# Altium footprint library port.PcbLib: 36 footprints (part 3 of 3)
Each footprint in its own frame and in the unit in brackets; x right, y up, seen from the top. Pads: shape width x height; smd on the part's side, far side on the other; paste and mask are expansions set on the pad; w line width, h text height; cw(c..) or ccw(c..) is an arc to the next point about the centre after c.
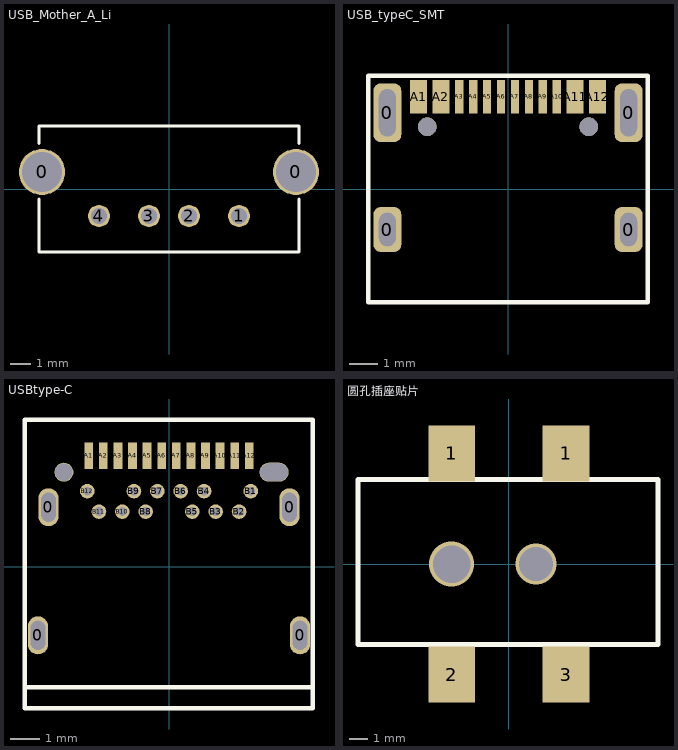
[diagram p2: the footprints below, top view; thin cyan lines are the x and y axes]

## USB_Mother_A_Li [mm] "USB母头A型立式"
height 13.5
pads (6):
  round 2.3 hole 2: 0(-6.35,0.85) 0(6.35,0.85)
  round 1.1 hole 0.8: 1(3.5,-1.35) 2(1,-1.35) 3(-1,-1.35) 4(-3.5,-1.35)
Top Overlay:
  lines w0.152: -6.5,-0.508 -6.5,-3.15 6.5,-3.15 6.5,-0.508 ; -6.5,2.286 -6.5,3.15 6.5,3.15 6.5,2.286

## USB_typeC_SMT [mm] "贴片无插针USB_typeC"
pads (16):
  rrect50% 1x1.6 hole 0.6 slot 1.2 at 90 deg: 0(-4.32,-1.45) 0(4.32,-1.45)
  rrect50% 1x2.1 hole 0.6 slot 1.7 at 90 deg: 0(-4.32,2.73) 0(4.32,2.73)
  rect 0.6x1.2 smd: A1(-3.2,3.295) A2(-2.4,3.295) A11(2.4,3.295) A12(3.2,3.295)
  rect 0.3x1.2 smd: A3(-1.75,3.295) A4(-1.25,3.295) A5(-0.75,3.295) A6(-0.25,3.295) A7(0.25,3.295) A8(0.75,3.295) A9(1.25,3.295) A10(1.75,3.295)
via 2.89,2.23 diameter 0.65 hole 0.65
via -2.89,2.23 diameter 0.65 hole 0.65
Top Overlay:
  lines w0.152: -5,-4.05 5,-4.05 5,4.05 -5,4.05 -5,-4.05

## USBtype-C [mm] "USBtypeC母座"
pads (30):
  oval 0.7x1.3 hole 0.5 slot 1 at 90 deg: 0(-4.49,-2.345) 0(-4.13,2.045) 0(4.13,2.045) 0(4.49,-2.345)
  rect 0.3x0.9 smd: A1(-2.75,3.81) A2(-2.25,3.81) A3(-1.75,3.81) A4(-1.25,3.81) A5(-0.75,3.81) A6(-0.25,3.81) A7(0.25,3.81) A8(0.75,3.81) A9(1.25,3.81) A10(1.75,3.81) A11(2.25,3.81) A12(2.75,3.81)
  round 0.5 hole 0.3: B1(2.8,2.595) B2(2.4,1.895) B3(1.6,1.895) B4(1.2,2.595) B5(0.8,1.895) B6(0.4,2.595) B7(-0.4,2.595) B8(-0.8,1.895) B9(-1.2,2.595) B10(-1.6,1.895) B11(-2.4,1.895) B12(-2.8,2.595)
  round 0.65 hole 0.6 unplated: ""(-3.6,3.245)
  oval 1x0.65 hole 0.6 slot 0.95 at 0 deg: ""(3.6,3.245)
Top Overlay:
  lines w0.152: -4.95,-4.85 -4.95,5.05 4.925,5.05 ; -4.95,-4.126 4.925,-4.126 ; -4.925,-4.85 4.925,-4.85 4.925,5.044

## 圆孔插座贴片 [mm]
height 11
pads (4):
  rect 2.5x3 smd mask+0.07: 1(-3.05,5.9) 1(3.05,5.9) 2(-3.05,-5.9) 3(3.05,-5.9)
via -3.05,0 diameter 2.4 hole 2
via 1.45,0 diameter 2.2 hole 1.8
Top Overlay:
  lines w0.254: -8.05,-4.3 7.95,-4.3 7.95,4.5 -8.05,4.5 -8.05,-4.3